# EAGLE library part AVR_ISP (library tiny)
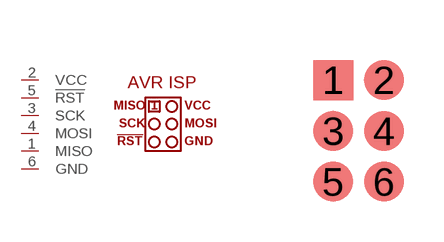
[diagram p0: symbol with the pads of AVR_ISP_50MIL; footprint AVR_ISP_50MIL]

Designator prefix -

## AVR_ISP  [AVR_ISP_50MIL]
1  MISO
2  VCC
3  SCK
4  MOSI
5  !RST
6  GND

## Footprint AVR_ISP_50MIL (pad centres in mm)
smd 1 x 1: 1 0,0; 2 1.27,0; 3 0,-1.27; 4 1.27,-1.27; 5 0,-2.54; 6 1.27,-2.54